# Altium schematic symbol library Cap 100uf 16v.SCHLIB: 1 symbol
Pins are listed as number, name and electrical type; pins without a type are passive.

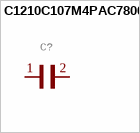
[diagram p0: symbol C1210C107M4PAC7800]

## C1210C107M4PAC7800
designator C?
GateName_1: G$1; SymbolName_1: C1210C107M4PAC7800; Description: 100µF ±20% 16V Ceramic Capacitor X5R 1210 (3225 Metric); MF: KEMET; LibraryName: Cap 100uf 16v; DeviceSetName: C1210C107M4PAC7800; Package: CAPC3225X280N; MP: C1210C107M4PAC7800; Package: 3225 KEMET
footprint CAPC3225X280N
pins: 1, 2